# Altium footprint library composants actifs.pcblib: 55 footprints (part 1 of 4)
Each footprint in its own frame and in the unit in brackets; x right, y up, seen from the top. Pads: shape width x height; smd on the part's side, far side on the other; paste and mask are expansions set on the pad; w line width, h text height; cw(c..) or ccw(c..) is an arc to the next point about the centre after c.
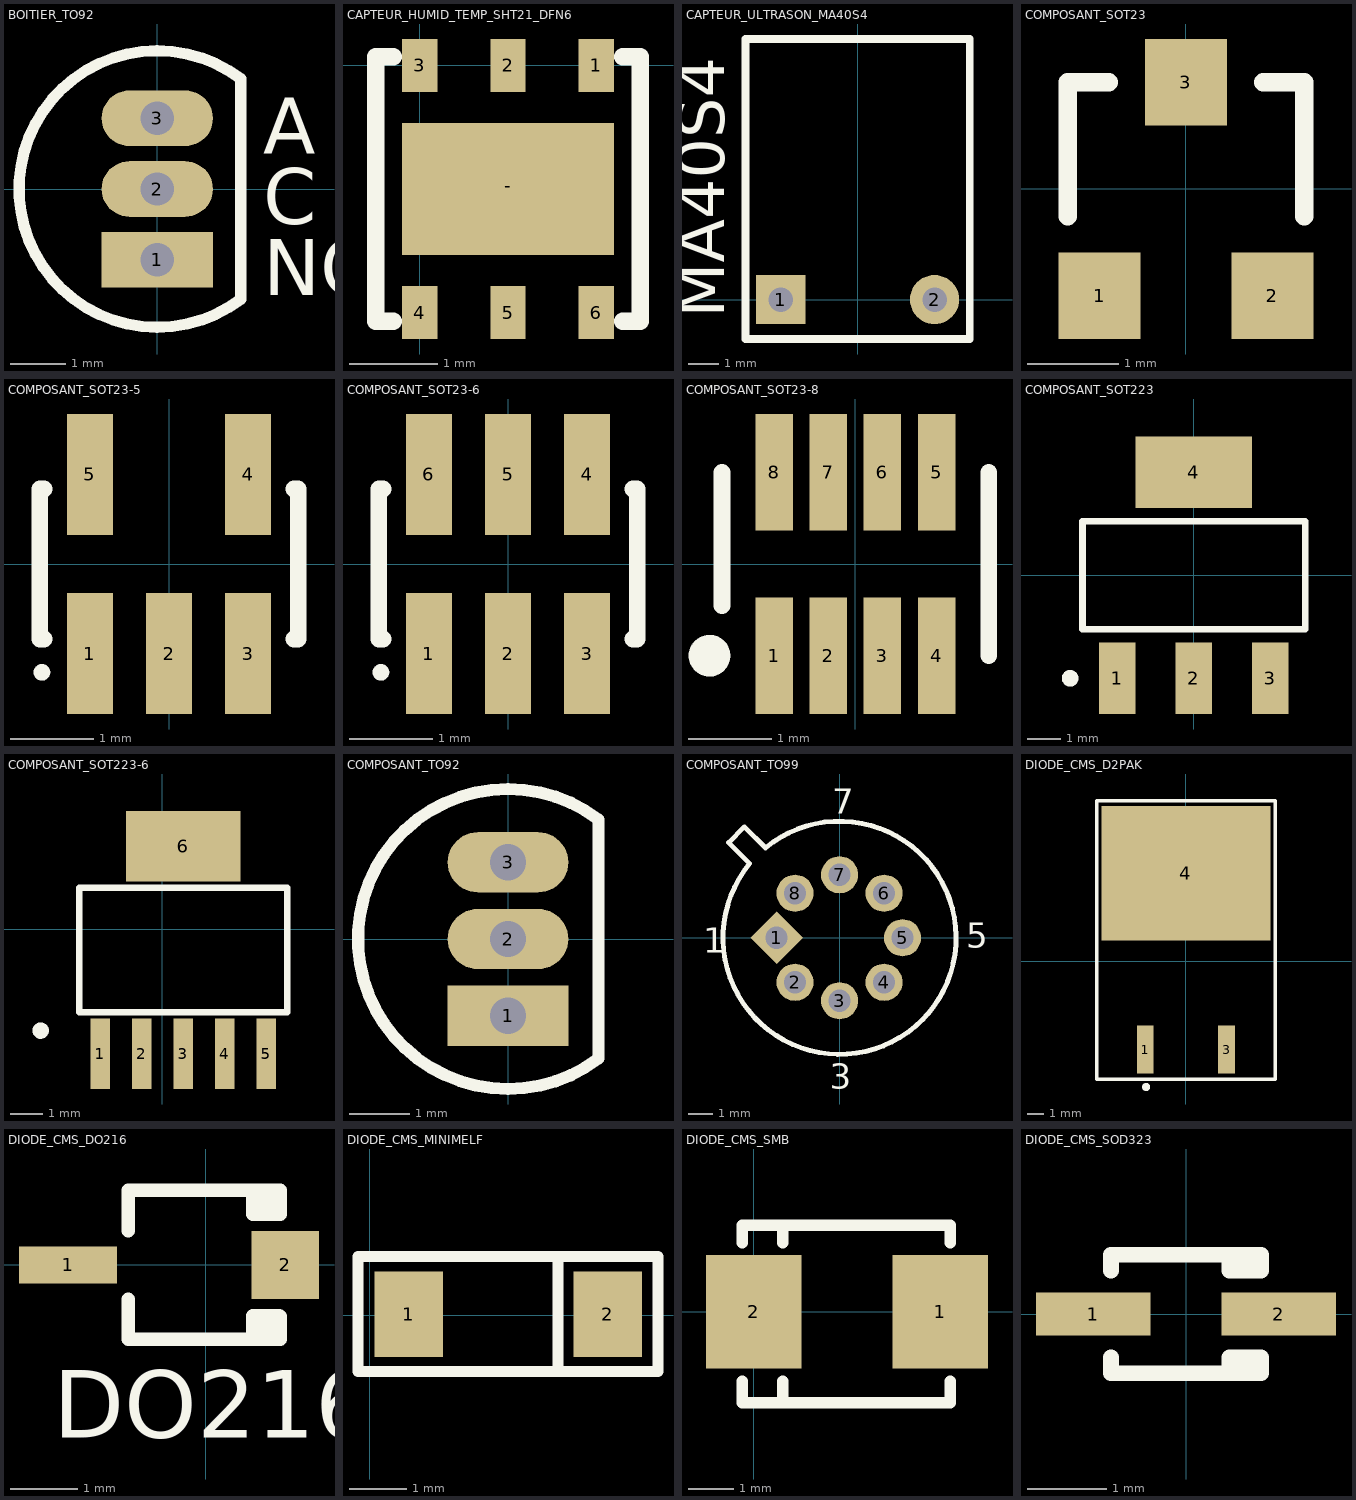
[diagram p0: the footprints below, top view; thin cyan lines are the x and y axes]

## BOITIER_TO92 [mm] "TO92 ; 3 BROCHES EN LIGNE; DIAMETRE CORPS : 4.5mm ; BROCHES : 0.51mm x 0.48mm"
height 6.86
pads (3):
  rect 2x1 hole 0.6: 1(0,-1.27)
  oval 2x1 hole 0.6: 2(0,0) 3(0,1.27)
Top Overlay:
  lines w0.2: 1.5,-1.98 cw(c0,0) 1.5,1.98 1.5,-1.98
  text "NC" at 1.905,-1.905 h1
  text "A" at 1.905,0.635 h1
  text "C" at 1.905,-0.635 h1
3D body "boitier TO92.STEP": height 6, standoff -5, extent -2.43,-2.4 1.5,2.4

## CAPTEUR_HUMID_TEMP_SHT21_DFN6 [mm] "CAPTEUR HUMIDITE:TEMPERATURE ; SHT21 ; BOITIER DF6 ; DIMENSIONS : 3.0mm x 3.0mm"
height 1.1
pads (7):
  rect 0.4x0.6 smd: 1(2,0) 2(1,0) 3(0,0) 4(0,-2.8) 5(1,-2.8) 6(2,-2.8)
  rect 2.4x1.5 smd: -(1,-1.4)
Top Overlay:
  lines w0.2: -0.3,-2.9 -0.5,-2.9 -0.5,0.1 -0.3,0.1 ; 2.3,-2.9 2.5,-2.9 2.5,0.1 2.3,0.1

## CAPTEUR_ULTRASON_MA40S4 [mil] "CAPTEUR ; DIAMETRE : 10mm ; ESPACEMENTS BROCHES : 5mm"
height 279.53
pads (2):
  rect 64x64 / inner round 64 / far side round 64 hole 32: 1(-100,0)
  round 64 hole 32: 2(100,0)
Top Overlay:
  lines w10: -145.67,-51.18 -145.67,338.58 145.67,338.58 145.67,-51.18 -145.67,-51.18
  text "MA40S4" at -173.23,-23.62 h60

## COMPOSANT_SOT23 [mm] "SOT23 ; DIMENSIONS : 3.0mm x 2.5 mm"
height 1.2
pads (3):
  rect 0.9x0.95 smd: 1(-0.95,-1.175) 2(0.95,-1.175) 3(0,1.175)
Top Overlay:
  lines w0.2: -1.3,-0.3 -1.3,1.175 -0.85,1.175 ; 0.85,1.175 1.3,1.175 1.3,-0.3
3D body "boitier SOT23.STEP": height 1.1, standoff 0, extent -1.5,-1.569 1.5,1.569

## COMPOSANT_SOT23-5 [mm]
pads (5):
  rect 0.55x1.45 smd: 1(-0.95,-1.075) 2(0,-1.075) 3(0.95,-1.075) 4(0.95,1.075) 5(-0.95,1.075)
Top Overlay:
  circle w0.1: c-1.525,-1.3 r0.05
  lines w0.2: -1.5,-0.9 -1.55,-0.9 -1.55,0.9 -1.5,0.9 ; 1.5,-0.9 1.55,-0.9 1.55,0.9 1.5,0.9
3D body "boitier SOT23-5L.STEP": height 1.3, standoff 0, extent -1.5,-1.5 1.5,1.5

## COMPOSANT_SOT23-6 [mm] "SOT23-6 ; 5 BROCHES; DIMENSIONS : 3.1mm x 3mm"
height 1.45
pads (6):
  rect 0.55x1.45 smd: 1(-0.95,-1.075) 2(0,-1.075) 3(0.95,-1.075) 4(0.95,1.075) 5(0,1.075) 6(-0.95,1.075)
Top Overlay:
  circle w0.1: c-1.525,-1.3 r0.05
  lines w0.2: -1.5,-0.9 -1.55,-0.9 -1.55,0.9 -1.5,0.9 ; 1.5,-0.9 1.55,-0.9 1.55,0.9 1.5,0.9
3D body "boitier SOT23-6.STEP": height 1.3, standoff 0, extent -1.5,-1.5 1.5,1.5

## COMPOSANT_SOT23-8 [mm] "SOT23-8 ; 8 BROCHES ; DIMENSIONS : 2.8mm x 3mm ; PAS : 0.65mm"
height 1.45
pads (8):
  rect 0.45x1.4 smd: 1(-0.975,-1.1) 2(-0.325,-1.1) 3(0.325,-1.1) 4(0.975,-1.1) 5(0.975,1.1) 6(0.325,1.1) 7(-0.325,1.1) 8(-0.975,1.1)
Top Overlay:
  circle w0.25: c-1.75,-1.1 r0.125
  lines w0.2: -1.6,-0.5 -1.6,1.1 ; 1.6,-1.1 1.6,1.1
3D body "boitier SOT23-8.STEP": height 1.11, standoff 0, extent -1.5,-1.402 1.5,1.402

## COMPOSANT_SOT223 [mm] "SOT-223 ; 4 BROCHES; DIMENSIONS : 6.7mm x 7.3mm"
height 1.8
pads (4):
  rect 1.1x2.15 smd: 1(-2.3,-3.1) 2(0,-3.1) 3(2.3,-3.1)
  rect 3.5x2.15 smd: 4(0,3.1)
Top Overlay:
  circle w0.25: c-3.725,-3.1 r0.125
  lines w0.2: -3.35,-1.625 -3.35,1.625 3.35,1.625 3.35,-1.625 -3.35,-1.625
3D body "boitier SOT223.STEP": height 1.64, standoff -0.01, extent -3.25,-3.64 3.25,3.36

## COMPOSANT_SOT223-6 [mm] "SOT-223-6 ; 6 BROCHES; DIMENSIONS : 6.55mm x 7.26mm"
height 1.8
pads (6):
  rect 0.6x2.15 smd: 1(-1.905,-3.81) 2(-0.635,-3.81) 3(0.635,-3.81) 4(1.905,-3.81) 5(3.175,-3.81)
  rect 3.5x2.15 smd: 6(0.635,2.54)
Top Overlay:
  circle w0.25: c-3.725,-3.1 r0.125
  lines w0.2: -2.54,-2.54 -2.54,1.27 3.81,1.27 3.81,-2.54 -2.54,-2.54
3D body "boitier SOT223-6.STEP": height 1.8, standoff 0, extent -2.64,-4.445 3.91,2.815

## COMPOSANT_TO92 [mm] "BOITIER TO92 ; 3 BROCHES EN LIGNE; DIAMETRE CORPS : 4.5mm ; BROCHES : 0.51mm x 0.48mm"
height 6.86
pads (3):
  rect 2x1 hole 0.6: 1(0,-1.27)
  oval 2x1 hole 0.6: 2(0,0) 3(0,1.27)
Top Overlay:
  lines w0.2: 1.5,-1.98 cw(c0,0) 1.5,1.98 1.5,-1.98
3D body "boitier TO92.STEP": height 6, standoff -5, extent -2.43,-2.4 1.5,2.4

## COMPOSANT_TO99 [mm] "COMPOSANT TO99 ;  8 BROCHES ; DIAMETRE EXTERIEUR : 9.4mm ; DIAMETRE DU CERCLE DES BROCHES : 5mm ; PERCAGE BROCHES : 0.6mm"
height 4.69
pads (8):
  rect 1.5x1.5 hole 0.9 rot 45: 1(-2.54,0)
  round 1.5 hole 0.9: 2(-1.796,-1.796) 3(0,-2.54) 4(1.796,-1.796) 5(2.54,0) 6(1.796,1.796) 7(0,2.54) 8(-1.796,1.796)
Top Overlay:
  lines w0.2: -4.475,3.838 -3.838,4.475 -2.99,3.626 cw(c0,0) -3.626,2.99 -4.475,3.838
  text "1" at -5.5,-0.6 h1
  text "3" at -0.4,-6.1 h1
  text "5" at 5.1,-0.4 h1
  text "7" at -0.3,5 h1

## DIODE_CMS_D2PAK [mm] "DIODE CMS D2PAK ; DIMENSIONS : 15.5mm x 10.5 mm"
height 4.69
pads (3):
  rect 1.05x3 smd: 1(-2.54,-5.5) 3(2.54,-5.5)
  rect 10.55x8.4 smd: 4(0,5.5)
Top Overlay:
  circle w0.25: c-2.485,-7.84 r0.125
  lines w0.2: -5.57,-7.35 5.575,-7.35 5.575,10.04 -5.57,10.04 -5.57,-7.35
3D body "boitier D2PAK.STEP": height 4.98, standoff -0.03, extent -5.12,-6.162 5.04,9.102

## DIODE_CMS_DO216 [mm]
height 1.1
pads (2):
  rect 1.45x0.55 smd: 1(-2.032,0)
  rect 1x1 smd: 2(1.175,0)
Top Overlay:
  lines w0.2: -1.143,-0.508 -1.143,-1.1 1.1,-1.1 1.1,-0.762 ; -1.143,0.508 -1.143,1.1 1.1,1.1 1.1,0.75 0.7,0.75 0.7,1.1 ; 0.7,-1.1 0.7,-0.75 1.088,-0.75 ; 0.9,-1.1 0.9,-0.75 ; 0.9,0.75 0.9,1.1
  text "DO216" at -2.25,-2.55 h1

## DIODE_CMS_MINIMELF [mm] "DIODE CMS MINIMELF; DIMENSIONS : 3.5mm x 1.45mm"
height 2.7
pads (2):
  rect 1.2x1.5 smd: 1(0.68,0.015) 2(4.18,0.015)
Top Overlay:
  lines w0.2: 3.303,-0.97 3.303,0.98 ; -0.21,-0.99 -0.21,1.03 5.06,1.03 5.06,-0.99 -0.21,-0.99
3D body "LL4000.STEP": height 1.43, standoff -0.02, extent 0.68,-0.71 4.18,0.74

## DIODE_CMS_SMB [mm] "DIODE CMS SMB ; DIMENSIONS : 5.4mm x 3.6mm ; ESPACEMENT BROCHES : 4.15mm"
height 2.3
pads (2):
  rect 2.1x2.5 smd: 1(4.1,0) 2(0,0)
Top Overlay:
  lines w0.254: -0.254,-1.524 -0.254,-2 4.318,-2 4.318,-1.524 ; -0.254,1.524 -0.254,1.905 4.318,1.905 4.318,1.524 ; 0.635,-1.905 0.635,-1.524 ; 0.635,1.524 0.635,1.905
3D body "DO214-SMB.STEP": height 2.3, standoff 0, extent -0.65,-1.82 4.75,1.78

## DIODE_CMS_SOD323 [mm] "DIODE CMS SOD323 ; DIMENSIONS : 1.7mm x 1.3mm"
height 1.1
pads (2):
  rect 1.45x0.55 smd: 1(-1.175,0) 2(1.175,0)
Top Overlay:
  lines w0.2: -0.95,-0.55 -0.95,-0.75 0.95,-0.75 0.95,-0.55 0.55,-0.55 0.55,-0.75 ; -0.95,0.55 -0.95,0.75 0.95,0.75 0.95,0.55 0.55,0.55 0.55,0.75
3D body "boitier SOD323.STEP": height 0.79, standoff -0.08, extent -1.35,-0.68 1.35,0.67